# EAGLE library part LCD-16X2 (library Tinkercad)
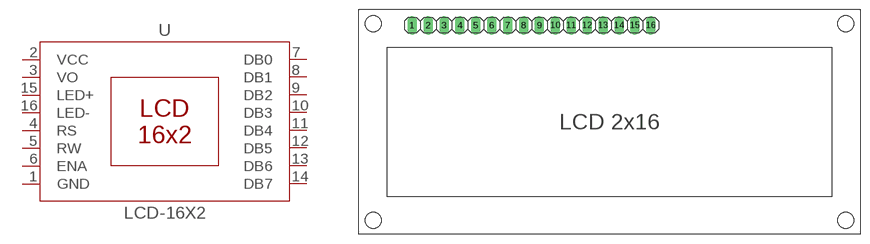
[diagram p35: symbol with the pads of JHD-162A; footprint JHD-162A]

Designator prefix -

## LCD-16X2JHD-162A  [JHD-162A]
1  GND
2  VCC
3  VO
4  RS
5  RW
6  ENA
7  DB0
8  DB1
9  DB2
10  DB3
11  DB4
12  DB5
13  DB6
14  DB7
15  LED+
16  LED-

## Footprint JHD-162A (pad centres in mm)
PIN HEADER
drill 1.016 long: 1 -19.05,0; 2 -16.51,0; 3 -13.97,0; 4 -11.43,0; 5 -8.89,0; 6 -6.35,0; 7 -3.81,0; 8 -1.27,0; 9 1.27,0; 10 3.81,0; 11 6.35,0; 12 8.89,0; 13 11.43,0; 14 13.97,0; 15 16.51,0; 16 19.05,0